# Altium schematic symbol library HC-49SM.SchLib: 1 symbol
Pins are listed as number, name and electrical type; pins without a type are passive.

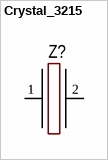
[diagram p0: symbol Crystal_3215]

## Crystal_3215
designator Z?
Manufacturer: Epson; PartNumber: FC-135 32.7680KA-A5; TypeOscilator: Crystal; LoadCapacitance: 12.5pF; Tolerance: ±20ppm; Package: case 3215; HelpURL: https://www.digikey.com/product-detail/en/epson/FC-135-32.7680KA-A5/SER4103CT-ND/6188447; ValueManufacturerPartNumber: =TypeOscilator+', '+Frequency+', '+LoadCapacitance+', '+Tolerance+', '+Package+', '+Temperature; Temperature: -40...+85°C
footprint CTS-ATS-SM-XTAL-2 (SMD, 2-Leads, Body 11.1x4.83mm, Pitch 8.5mm)
pins: 1, 2